# Altium schematic symbol library F4SDR.SchLib: 74 symbols
Pins are listed as number, name and electrical type; pins without a type are passive.

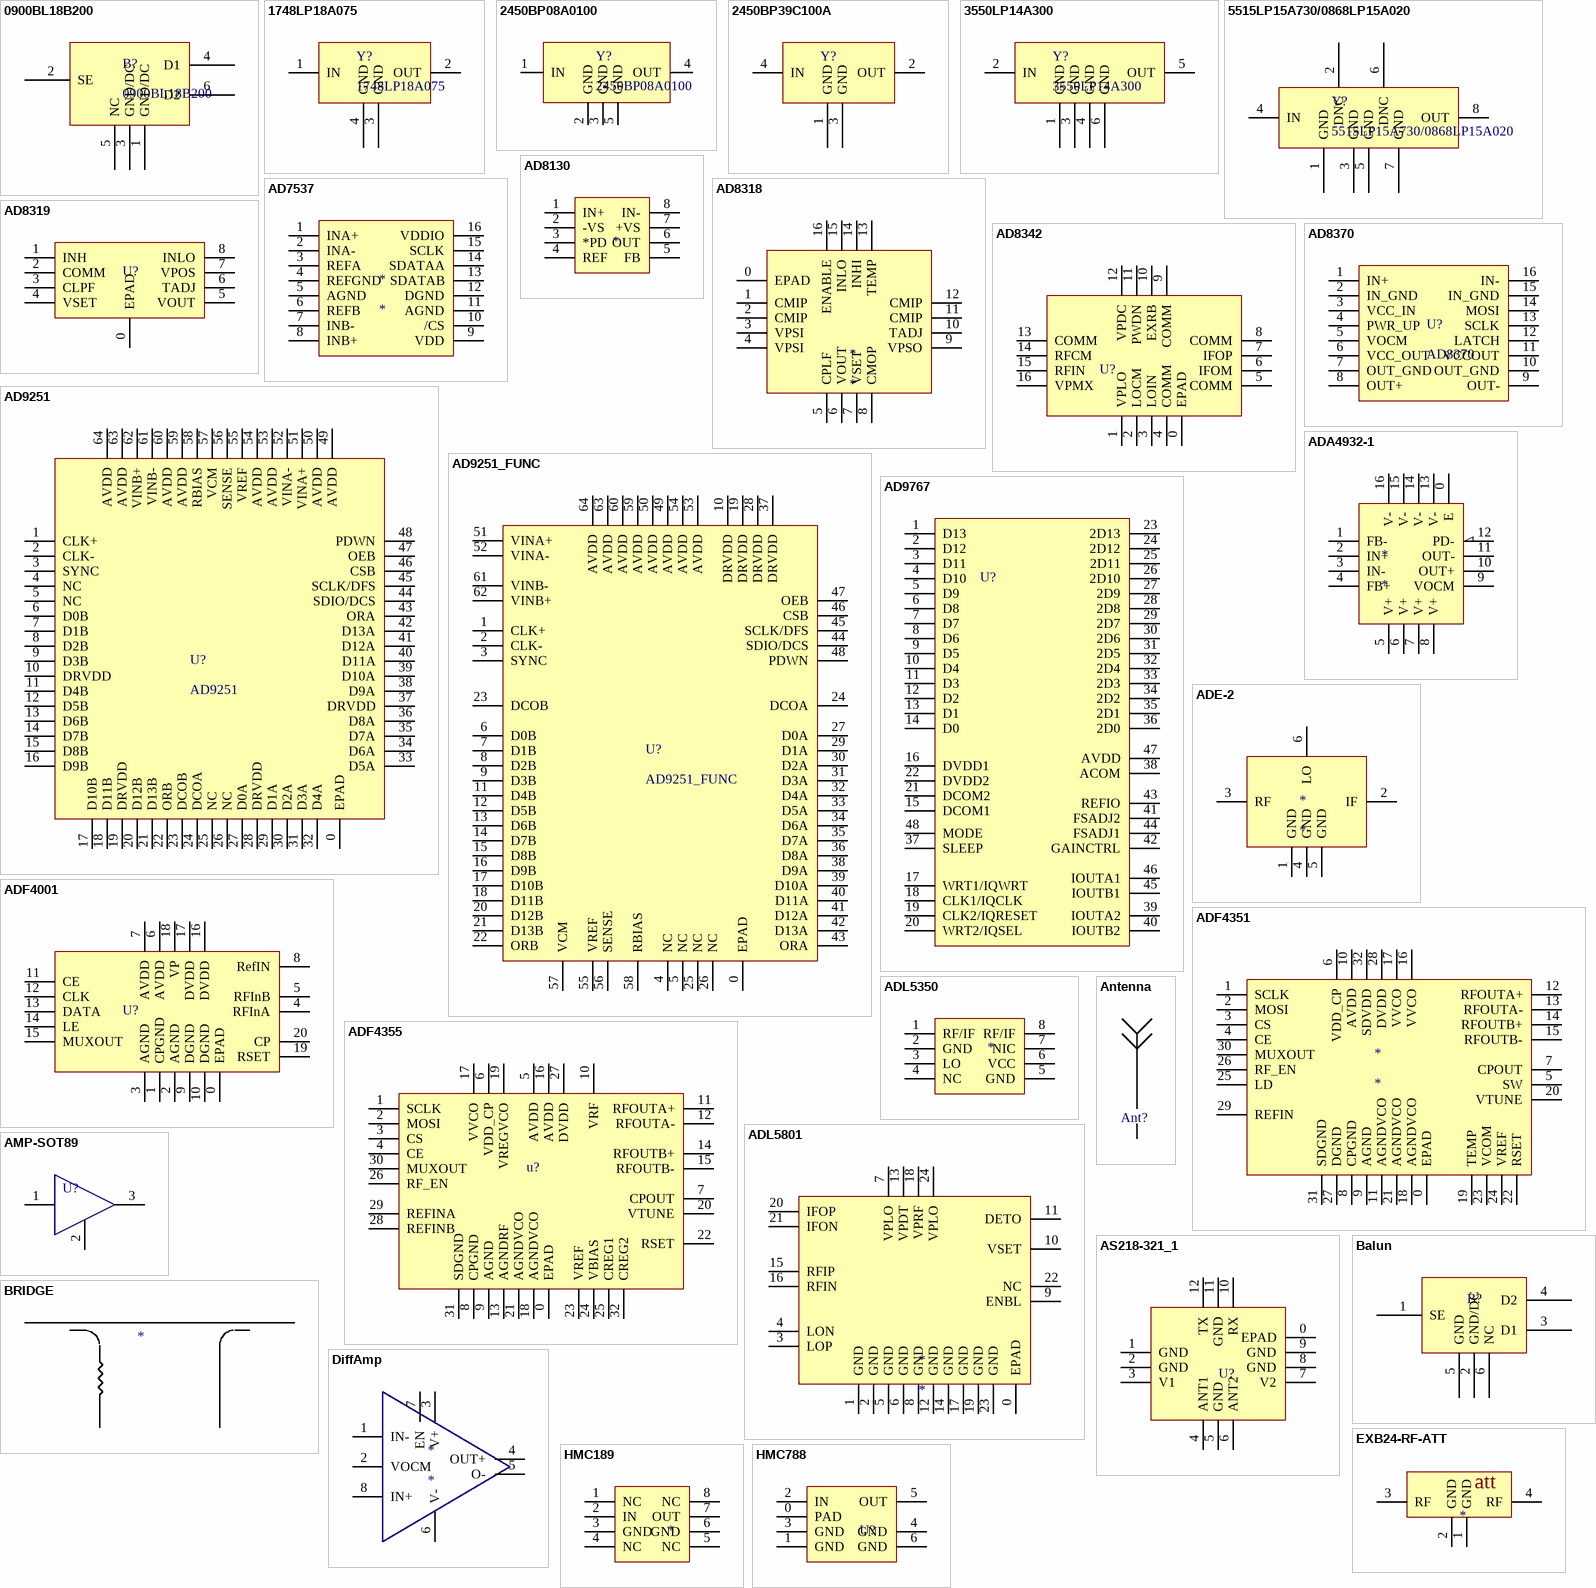
[diagram p0: symbols 0900BL18B200 to HMC788]

## 0900BL18B200
designator B?
footprint 0900BL18B200
pins: 1 GND/DC, 2 SE, 3 GND/DC, 4 D1, 5 NC, 6 D2

## 1748LP18A075
designator Y?
footprint 1748LP18A075
pins: 1 IN, 2 OUT, 3 GND, 4 GND

## 2450BP08A0100
designator Y?
footprint 2450BP08A0100
pins: 1 IN, 2 GND, 3 GND, 4 OUT, 5 GND

## 2450BP39C100A
designator Y?  (value not drawn)
footprint 2450BP39C100A
pins: 1 GND, 2 OUT, 3 GND, 4 IN

## 3550LP14A300
designator Y?
footprint 3550LP14A300
pins: 1 GND, 2 IN, 3 GND, 4 GND, 5 OUT, 6 GND

## 5515LP15A730/0868LP15A020
designator Y?
footprint 5515LP15A730/0868LP15A020
pins: 1 GND, 2 DNC, 3 GND, 4 IN, 5 GND, 6 DNC, 7 GND, 8 OUT

## AD7537
designator *
footprint AD7357
pins: 1 INA+, 2 INA-, 3 REFA, 4 REFGND, 5 AGND, 6 REFB, 7 INB-, 8 INB+, 9 VDD, 10 /CS, 11 AGND, 12 DGND, 13 SDATAB, 14 SDATAA, 15 SCLK, 16 VDDIO

## AD8130
designator *  (value not drawn)
footprint SO8
pins: 1 IN+, 2 -VS, 3 *PD, 4 REF, 5 FB, 6 OUT, 7 +VS, 8 IN-

## AD8318
designator *
footprint AD8318
pins: 0 EPAD, 1 CMIP, 2 CMIP, 3 VPSI, 4 VPSI, 5 CPLF, 6 VOUT, 7 VSET, 8 CMOP, 9 VPSO, 10 TADJ, 11 CMIP, 12 CMIP, 13 TEMP, 14 INHI, 15 INLO, 16 ENABLE

## AD8319
designator U?  (value not drawn)
footprint AD8319
pins: 0 EPAD, 1 INH, 2 COMM, 3 CLPF, 4 VSET, 5 VOUT, 6 TADJ, 7 VPOS, 8 INLO

## AD8342
designator U?  (value not drawn)
footprint ADA4932-1
pins: 0 EPAD, 1 VPLO, 2 LOCM, 3 LOIN, 4 COMM, 5 COMM, 6 IFOM, 7 IFOP, 8 COMM, 9 COMM, 10 EXRB, 11 PWDN, 12 VPDC, 13 COMM, 14 RFCM, 15 RFIN, 16 VPMX

## AD8370
designator U?
footprint TSSOP16_44MM_065P - duplicate
pins: 1 IN+, 2 IN_GND, 3 VCC_IN, 4 PWR_UP, 5 VOCM, 6 VCC_OUT, 7 OUT_GND, 8 OUT+, 9 OUT-, 10 OUT_GND, 11 VCCOUT, 12 LATCH, 13 SCLK, 14 MOSI, 15 IN_GND, 16 IN-

## AD9251
designator U?
footprint AD9251
pins: 0 EPAD, 1 CLK+, 2 CLK-, 3 SYNC, 4 NC, 5 NC, 6 D0B, 7 D1B, 8 D2B, 9 D3B, 10 DRVDD, 11 D4B, 12 D5B, 13 D6B, 14 D7B, 15 D8B, 16 D9B, 17 D10B, 18 D11B, 19 DRVDD, 20 D12B, 21 D13B, 22 ORB, 23 DCOB, 24 DCOA, 25 NC, 26 NC, 27 D0A, 28 DRVDD, 29 D1A, 30 D2A, 31 D3A, 32 D4A, 33 D5A, 34 D6A, 35 D7A, 36 D8A, 37 DRVDD, 38 D9A, 39 D10A, 40 D11A, 41 D12A, 42 D13A, 43 ORA, 44 SDIO/DCS, 45 SCLK/DFS, 46 CSB, 47 OEB, 48 PDWN, 49 AVDD, 50 AVDD, 51 VINA+, 52 VINA-, 53 AVDD, 54 AVDD, 55 VREF, 56 SENSE, 57 VCM, 58 RBIAS, 59 AVDD, 60 AVDD, 61 VINB-, 62 VINB+, 63 AVDD, 64 AVDD

## AD9251_FUNC
designator U?
footprint AD9251
pins: 0 EPAD, 1 CLK+, 2 CLK-, 3 SYNC, 4 NC, 5 NC, 6 D0B, 7 D1B, 8 D2B, 9 D3B, 10 DRVDD, 11 D4B, 12 D5B, 13 D6B, 14 D7B, 15 D8B, 16 D9B, 17 D10B, 18 D11B, 19 DRVDD, 20 D12B, 21 D13B, 22 ORB, 23 DCOB, 24 DCOA, 25 NC, 26 NC, 27 D0A, 28 DRVDD, 29 D1A, 30 D2A, 31 D3A, 32 D4A, 33 D5A, 34 D6A, 35 D7A, 36 D8A, 37 DRVDD, 38 D9A, 39 D10A, 40 D11A, 41 D12A, 42 D13A, 43 ORA, 44 SDIO/DCS, 45 SCLK/DFS, 46 CSB, 47 OEB, 48 PDWN, 49 AVDD, 50 AVDD, 51 VINA+, 52 VINA-, 53 AVDD, 54 AVDD, 55 VREF, 56 SENSE, 57 VCM, 58 RBIAS, 59 AVDD, 60 AVDD, 61 VINB-, 62 VINB+, 63 AVDD, 64 AVDD

## AD9767
designator U?  (value not drawn)
footprint AD9767
pins: 1 D13, 2 D12, 3 D11, 4 D10, 5 D9, 6 D8, 7 D7, 8 D6, 9 D5, 10 D4, 11 D3, 12 D2, 13 D1, 14 D0, 15 DCOM1, 16 DVDD1, 17 WRT1/IQWRT, 18 CLK1/IQCLK, 19 CLK2/IQRESET, 20 WRT2/IQSEL, 21 DCOM2, 22 DVDD2, 23 2D13, 24 2D12, 25 2D11, 26 2D10, 27 2D9, 28 2D8, 29 2D7, 30 2D6, 31 2D5, 32 2D4, 33 2D3, 34 2D2, 35 2D1, 36 2D0, 37 SLEEP, 38 ACOM, 39 IOUTA2, 40 IOUTB2, 41 FSADJ2, 42 GAINCTRL, 43 REFIO, 44 FSADJ1, 45 IOUTB1, 46 IOUTA1, 47 AVDD, 48 MODE

## ADA4932-1
designator *
footprint ADA4932-1
pins: 0 E, 1 FB-, 2 IN+, 3 IN-, 4 FB+, 5 V+, 6 V+, 7 V+, 8 V+, 9 VOCM, 10 OUT+, 11 OUT-, 12 PD-, 13 V-, 14 V-, 15 V-, 16 V-

## ADE-2
designator *
footprint ADE-2
pins: 1 GND, 2 IF, 3 RF, 4 GND, 5 GND, 6 LO

## ADF4001
designator U?  (value not drawn)
footprint ADF4001
pins: 0 EPAD, 1 CPGND, 2 AGND, 3 AGND, 4 RFInA, 5 RFInB, 6 AVDD, 7 AVDD, 8 RefIN, 9 DGND, 10 DGND, 11 CE, 12 CLK, 13 DATA, 14 LE, 15 MUXOUT, 16 DVDD, 17 DVDD, 18 VP, 19 RSET, 20 CP

## ADF4351
designator *
footprint ADF4351
pins: 0 EPAD, 1 SCLK, 2 MOSI, 3 CS, 4 CE, 5 SW, 6 VDD_CP, 7 CPOUT, 8 CPGND, 9 AGND, 10 AVDD, 11 AGNDVCO, 12 RFOUTA+, 13 RFOUTA-, 14 RFOUTB+, 15 RFOUTB-, 16 VVCO, 17 VVCO, 18 AGNDVCO, 19 TEMP, 20 VTUNE, 21 AGNDVCO, 22 RSET, 23 VCOM, 24 VREF, 25 LD, 26 RF_EN, 27 DGND, 28 DVDD, 29 REFIN, 30 MUXOUT, 31 SDGND, 32 SDVDD

## ADF4355
designator u?  (value not drawn)
footprint ADF4351
pins: 0 EPAD, 1 SCLK, 2 MOSI, 3 CS, 4 CE, 5 AVDD, 6 VDD_CP, 7 CPOUT, 8 CPGND, 9 AGND, 10 VRF, 11 RFOUTA+, 12 RFOUTA-, 13 AGNDRF, 14 RFOUTB+, 15 RFOUTB-, 16 AVDD, 17 VVCO, 18 AGNDVCO, 19 VREGVCO, 20 VTUNE, 21 AGNDVCO, 22 RSET, 23 VREF, 24 VBIAS, 25 CREG1, 26 RF_EN, 27 DVDD, 28 REFINB, 29 REFINA, 30 MUXOUT, 31 SDGND, 32 CREG2

## ADL5350
designator *  (value not drawn)
pins: 1 RF/IF, 2 GND, 3 LO, 4 NC, 5 GND, 6 VCC, 7 NIC, 8 RF/IF

## ADL5801
designator *
footprint ADL5801
pins: 0 EPAD, 1 GND, 2 GND, 3 LOP, 4 LON, 5 GND, 6 GND, 7 VPLO, 8 GND, 9 ENBL, 10 VSET, 11 DETO, 12 GND, 13 VPDT, 14 GND, 15 RFIP, 16 RFIN, 17 GND, 18 VPRF, 19 GND, 20 IFOP, 21 IFON, 22 NC, 23 GND, 24 VPLO

## AMP-SOT89
designator U?  (value not drawn)
footprint SOT-89
pins: 1, 2, 3

## Antenna
designator Ant?  (value not drawn)
footprint SMA-2
footprint IPEX-2 (Footprint not found)
pins: 1, GND G

## AS218-321_1
designator U?
footprint SKY13319/AS218-321
pins: 0 EPAD, 1 GND, 2 GND, 3 V1, 4 ANT1, 5 GND, 6 ANT2, 7 V2, 8 GND, 9 GND, 10 RX, 11 GND, 12 TX

## Balun
designator B?
footprint HHM1711D1/HHM1732B1
pins: 1 SE, 2 GND/DC, 3 D1, 4 D2, 5 GND, 6 NC

## BRIDGE
designator *  (value not drawn)
footprint BRIDGE
pins: COUPLE, GND, OUT, SOURCE

## DiffAmp
designator *
footprint MSOP8/VSSOP8
footprint SOIC8_39MM
pins: 1 IN-, 2 VOCM, 3 V+, 4 OUT+, 5 O-, 6 V-, 7 EN, 8 IN+

## EXB24-RF-ATT
designator *  (value not drawn)
footprint EXB24AT-RF-ATT
pins: 1 GND, 2 GND, 3 RF, 4 RF
text: att

## HMC189
designator *  (value not drawn)
footprint MSOP8/VSSOP8
pins: 1 NC, 2 IN, 3 GND, 4 NC, 5 NC, 6 GND, 7 OUT, 8 NC

## HMC788
designator U?  (value not drawn)
footprint HMC788
pins: 0 PAD, 1 GND, 2 IN, 3 GND, 4 GND, 5 OUT, 6 GND

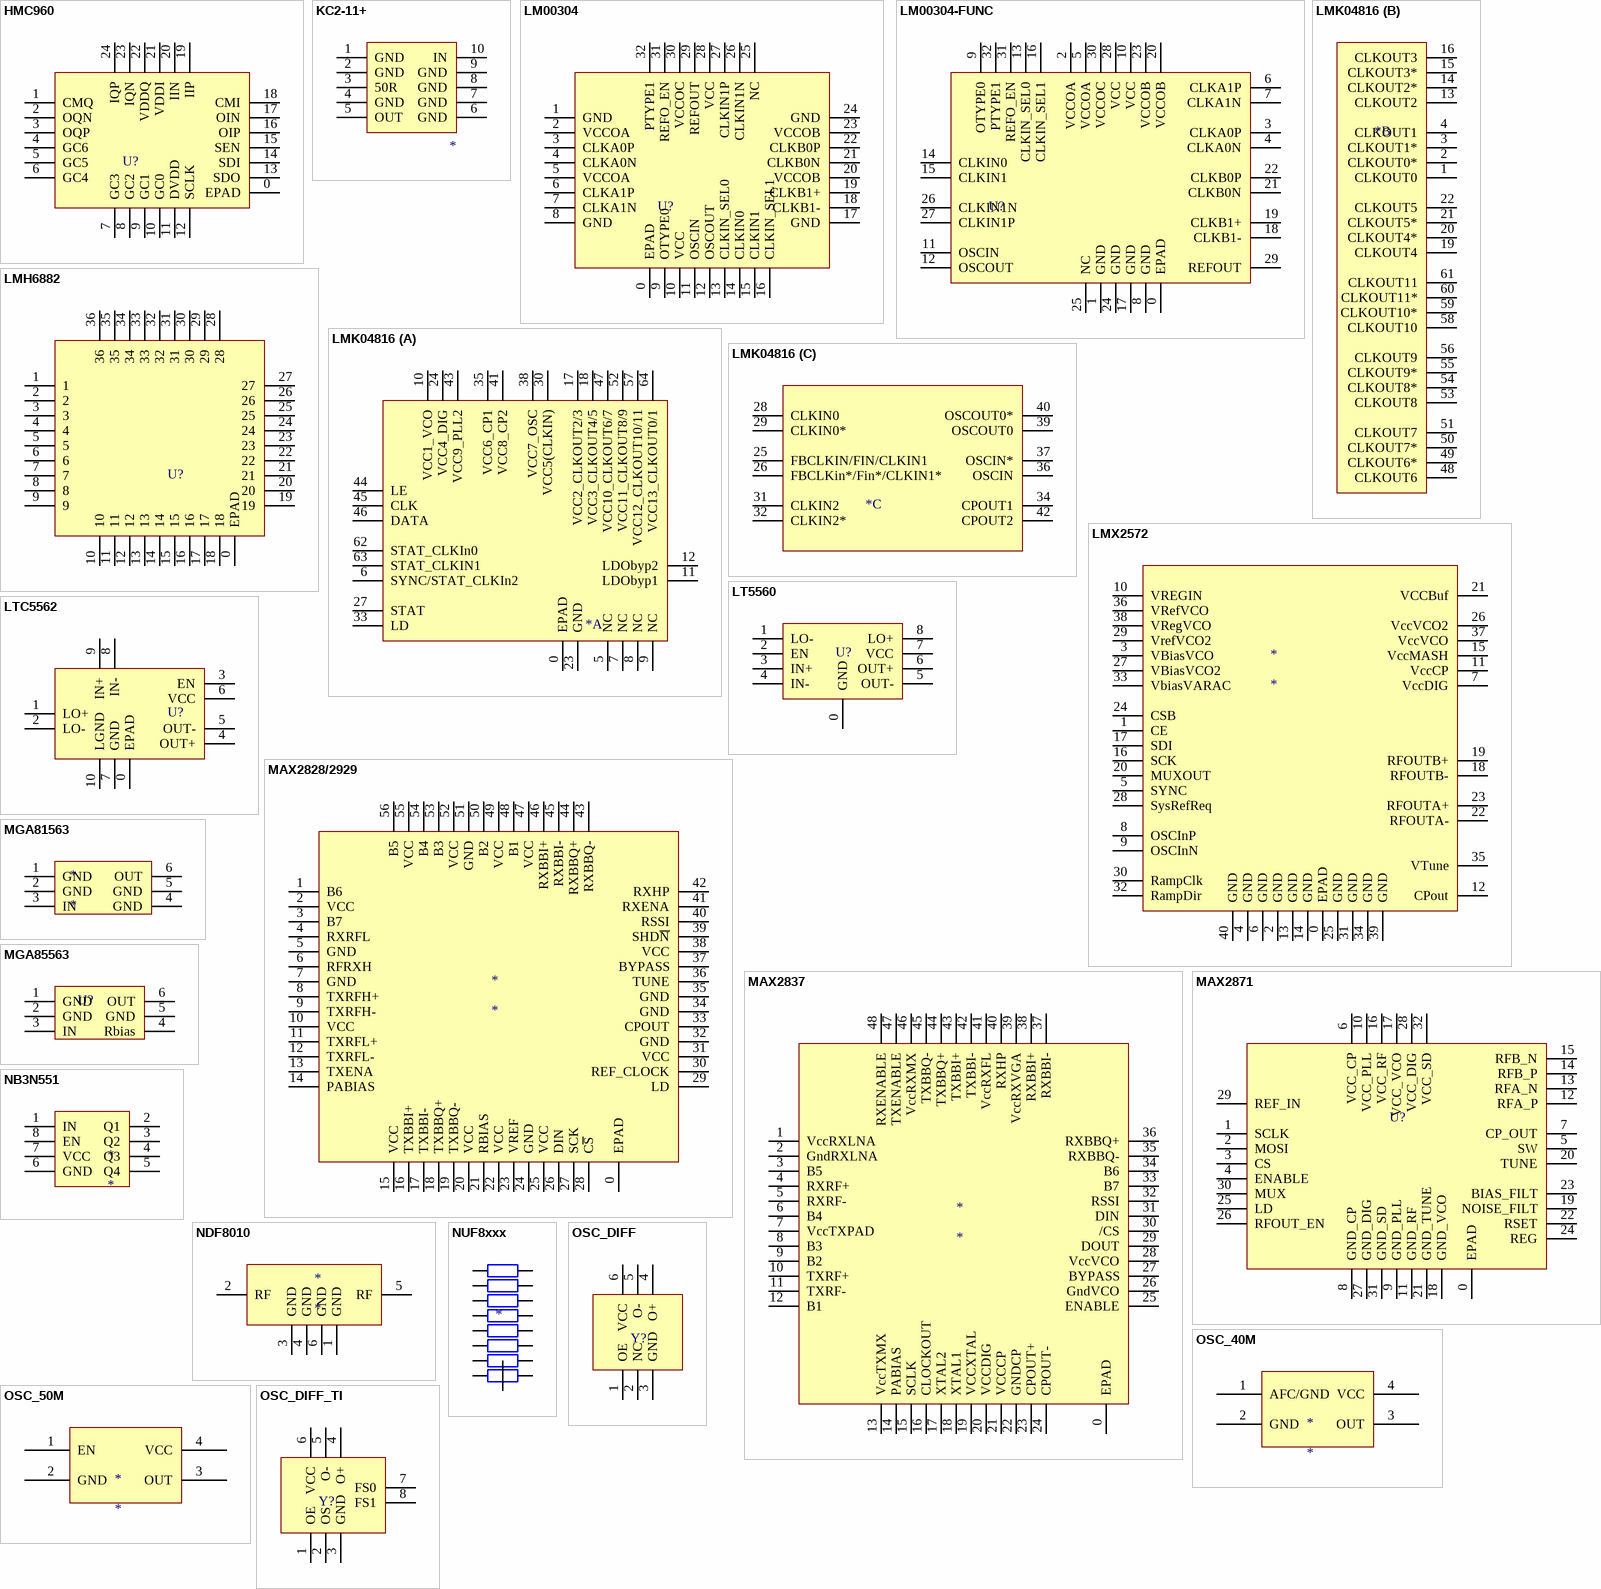
[diagram p1: symbols HMC960 to OSC_DIFF_TI]

## HMC960
designator U?  (value not drawn)
footprint HMC960
pins: 0 EPAD, 1 CMQ, 2 OQN, 3 OQP, 4 GC6, 5 GC5, 6 GC4, 7 GC3, 8 GC2, 9 GC1, 10 GC0, 11 DVDD, 12 SCLK, 13 SDO, 14 SDI, 15 SEN, 16 OIP, 17 OIN, 18 CMI, 19 IIP, 20 IIN, 21 VDDI, 22 VDDQ, 23 IQN, 24 IQP

## KC2-11+
designator *  (value not drawn)
footprint DZ885
pins: 1 GND, 2 GND, 3 50R, 4 GND, 5 OUT, 6 GND, 7 GND, 8 GND, 9 GND, 10 IN

## LM00304
designator U?  (value not drawn)
footprint LMK00304
pins: 0 EPAD, 1 GND, 2 VCCOA, 3 CLKA0P, 4 CLKA0N, 5 VCCOA, 6 CLKA1P, 7 CLKA1N, 8 GND, 9 OTYPE0, 10 VCC, 11 OSCIN, 12 OSCOUT, 13 CLKIN_SEL0, 14 CLKIN0, 15 CLKIN1, 16 CLKIN_SEL1, 17 GND, 18 CLKB1-, 19 CLKB1+, 20 VCCOB, 21 CLKB0N, 22 CLKB0P, 23 VCCOB, 24 GND, 25 NC, 26 CLKIN1N, 27 CLKIN1P, 28 VCC, 29 REFOUT, 30 VCCOC, 31 REFO_EN, 32 PTYPE1

## LM00304-FUNC
designator U?  (value not drawn)
footprint LMK00304
pins: 0 EPAD, 1 GND, 2 VCCOA, 3 CLKA0P, 4 CLKA0N, 5 VCCOA, 6 CLKA1P, 7 CLKA1N, 8 GND, 9 OTYPE0, 10 VCC, 11 OSCIN, 12 OSCOUT, 13 CLKIN_SEL0, 14 CLKIN0, 15 CLKIN1, 16 CLKIN_SEL1, 17 GND, 18 CLKB1-, 19 CLKB1+, 20 VCCOB, 21 CLKB0N, 22 CLKB0P, 23 VCCOB, 24 GND, 25 NC, 26 CLKIN1N, 27 CLKIN1P, 28 VCC, 29 REFOUT, 30 VCCOC, 31 REFO_EN, 32 PTYPE1

## LMH6882
designator U?  (value not drawn)
footprint LMH6882
pins: 0 EPAD, 1, 2, 3, 4, 5, 6, 7, 8, 9, 10, 11, 12, 13, 14, 15, 16, 17, 18, 19, 20, 21, 22, 23, 24, 25, 26, 27, 28, 29, 30, 31, 32, 33, 34, 35, 36

## LMK04816
designator *  (value not drawn)
footprint LMK04816
part A pins: 0 EPAD, 5 NC, 6 SYNC/STAT_CLKIn2, 7 NC, 8 NC, 9 NC, 10 VCC1_VCO, 11 LDObyp1, 12 LDObyp2, 17 VCC2_CLKOUT2/3, 18 VCC3_CLKOUT4/5, 23 GND, 24 VCC4_DIG, 27 STAT, 30 VCC5(CLKIN), 33 LD, 35 VCC6_CP1, 38 VCC7_OSC, 41 VCC8_CP2, 43 VCC9_PLL2, 44 LE, 45 CLK, 46 DATA, 47 VCC10_CLKOUT6/7, 52 VCC11_CLKOUT8/9, 57 VCC12_CLKOUT10/11, 62 STAT_CLKIn0, 63 STAT_CLKIN1, 64 VCC13_CLKOUT0/1
part B pins: 1 CLKOUT0, 2 CLKOUT0*, 3 CLKOUT1*, 4 CLKOUT1, 13 CLKOUT2, 14 CLKOUT2*, 15 CLKOUT3*, 16 CLKOUT3, 19 CLKOUT4, 20 CLKOUT4*, 21 CLKOUT5*, 22 CLKOUT5, 48 CLKOUT6, 49 CLKOUT6*, 50 CLKOUT7*, 51 CLKOUT7, 53 CLKOUT8, 54 CLKOUT8*, 55 CLKOUT9*, 56 CLKOUT9, 58 CLKOUT10, 59 CLKOUT10*, 60 CLKOUT11*, 61 CLKOUT11
part C pins: 25 FBCLKIN/FIN/CLKIN1, 26 FBCLKin*/Fin*/CLKIN1*, 28 CLKIN0, 29 CLKIN0*, 31 CLKIN2, 32 CLKIN2*, 34 CPOUT1, 36 OSCIN, 37 OSCIN*, 39 OSCOUT0, 40 OSCOUT0*, 42 CPOUT2

## LMX2572
designator *
footprint LMX2572
pins: 0 EPAD, 1 CE, 2 GND, 3 VBiasVCO, 4 GND, 5 SYNC, 6 GND, 7 VccDIG, 8 OSCInP, 9 OSCInN, 10 VREGIN, 11 VccCP, 12 CPout, 13 GND, 14 GND, 15 VccMASH, 16 SCK, 17 SDI, 18 RFOUTB-, 19 RFOUTB+, 20 MUXOUT, 21 VCCBuf, 22 RFOUTA-, 23 RFOUTA+, 24 CSB, 25 GND, 26 VccVCO2, 27 VBiasVCO2, 28 SysRefReq, 29 VrefVCO2, 30 RampClk, 31 GND, 32 RampDir, 33 VbiasVARAC, 34 GND, 35 VTune, 36 VRefVCO, 37 VccVCO, 38 VRegVCO, 39 GND, 40 GND

## LT5560
designator U?  (value not drawn)
footprint LT5560
pins: 0 GND, 1 LO-, 2 EN, 3 IN+, 4 IN-, 5 OUT-, 6 OUT+, 7 VCC, 8 LO+

## LTC5562
designator U?  (value not drawn)
footprint LTC5562
pins: 0 EPAD, 1 LO+, 2 LO-, 3 EN, 4 OUT+, 5 OUT-, 6 VCC, 7 GND, 8 IN-, 9 IN+, 10 LGND

## MAX2828/2929
designator *
pins: 0 EPAD, 1 B6, 2 VCC, 3 B7, 4 RXRFL, 5 GND, 6 RFRXH, 7 GND, 8 TXRFH+, 9 TXRFH-, 10 VCC, 11 TXRFL+, 12 TXRFL-, 13 TXENA, 14 PABIAS, 15 VCC, 16 TXBBI+, 17 TXBBI-, 18 TXBBQ+, 19 TXBBQ-, 20 VCC, 21 RBIAS, 22 VCC, 23 VREF, 24 GND, 25 VCC, 26 DIN, 27 SCK, 28 C~{S}, 29 LD, 30 REF_CLOCK, 31 VCC, 32 GND, 33 CPOUT, 34 GND, 35 GND, 36 TUNE, 37 BYPASS, 38 VCC, 39 SHD~{N}, 40 RSSI, 41 RXENA, 42 RXHP, 43 RXBBQ-, 44 RXBBQ+, 45 RXBBI-, 46 RXBBI+, 47 VCC, 48 B1, 49 VCC, 50 B2, 51 GND, 52 VCC, 53 B3, 54 B4, 55 VCC, 56 B5

## MAX2837
designator *
footprint MAX2837
pins: 0 EPAD, 1 VccRXLNA, 2 GndRXLNA, 3 B5, 4 RXRF+, 5 RXRF-, 6 B4, 7 VccTXPAD, 8 B3, 9 B2, 10 TXRF+, 11 TXRF-, 12 B1, 13 VccTXMX, 14 PABIAS, 15 SCLK, 16 CLOCKOUT, 17 XTAL2, 18 XTAL1, 19 VCCXTAL, 20 VCCDIG, 21 VCCCP, 22 GNDCP, 23 CPOUT+, 24 CPOUT-, 25 ENABLE, 26 GndVCO, 27 BYPASS, 28 VccVCO, 29 DOUT, 30 /CS, 31 DIN, 32 RSSI, 33 B7, 34 B6, 35 RXBBQ-, 36 RXBBQ+, 37 RXBBI-, 38 RXBBI+, 39 VccRXVGA, 40 RXHP, 41 VccRXFL, 42 TXBBI-, 43 TXBBI+, 44 TXBBQ+, 45 TXBBQ-, 46 VccRXMX, 47 TXENABLE, 48 RXENABLE

## MAX2871
designator U?  (value not drawn)
footprint MAX2871
pins: 0 EPAD, 1 SCLK, 2 MOSI, 3 CS, 4 ENABLE, 5 SW, 6 VCC_CP, 7 CP_OUT, 8 GND_CP, 9 GND_PLL, 10 VCC_PLL, 11 GND_RF, 12 RFA_P, 13 RFA_N, 14 RFB_P, 15 RFB_N, 16 VCC_RF, 17 VCC_VCO, 18 GND_VCO, 19 NOISE_FILT, 20 TUNE, 21 GND_TUNE, 22 RSET, 23 BIAS_FILT, 24 REG, 25 LD, 26 RFOUT_EN, 27 GND_DIG, 28 VCC_DIG, 29 REF_IN, 30 MUX, 31 GND_SD, 32 VCC_SD

## MGA81563
designator *
footprint SC-70-6
pins: 1 GND, 2 GND, 3 IN, 4 GND, 5 GND, 6 OUT

## MGA85563
designator U?  (value not drawn)
footprint SC-70-6
pins: 1 GND, 2 GND, 3 IN, 4 Rbias, 5 GND, 6 OUT

## NB3N551
designator *
footprint SO8
pins: 1 IN, 2 Q1, 3 Q2, 4 Q3, 5 Q4, 6 GND, 7 VCC, 8 EN

## NDF8010
designator *
footprint NDF8010
pins: 1 GND, 2 RF, 3 GND, 4 GND, 5 RF, 6 GND

## NUF8xxx
designator *  (value not drawn)
footprint NUF8xxx
pins: 0, 1, 2, 3, 4, 5, 6, 7, 8, 9, 10, 11, 12, 13, 14, 15, 16

## OSC_40M
designator *
footprint TXC_7Q
pins: 1 AFC/GND, 2 GND, 3 OUT, 4 VCC

## OSC_50M
designator *
footprint TXC_7Q
pins: 1 EN, 2 GND, 3 OUT, 4 VCC

## OSC_DIFF
designator Y?
footprint OSC3225_DIFF
footprint OSC7050-DIFF
pins: 1 OE, 2 NC, 3 GND, 4 O+, 5 O-, 6 VCC

## OSC_DIFF_TI
designator Y?
footprint OSC7050-LMK61PD0A2
pins: 1 OE, 2 OS, 3 GND, 4 O+, 5 O-, 6 VCC, 7 FS0, 8 FS1

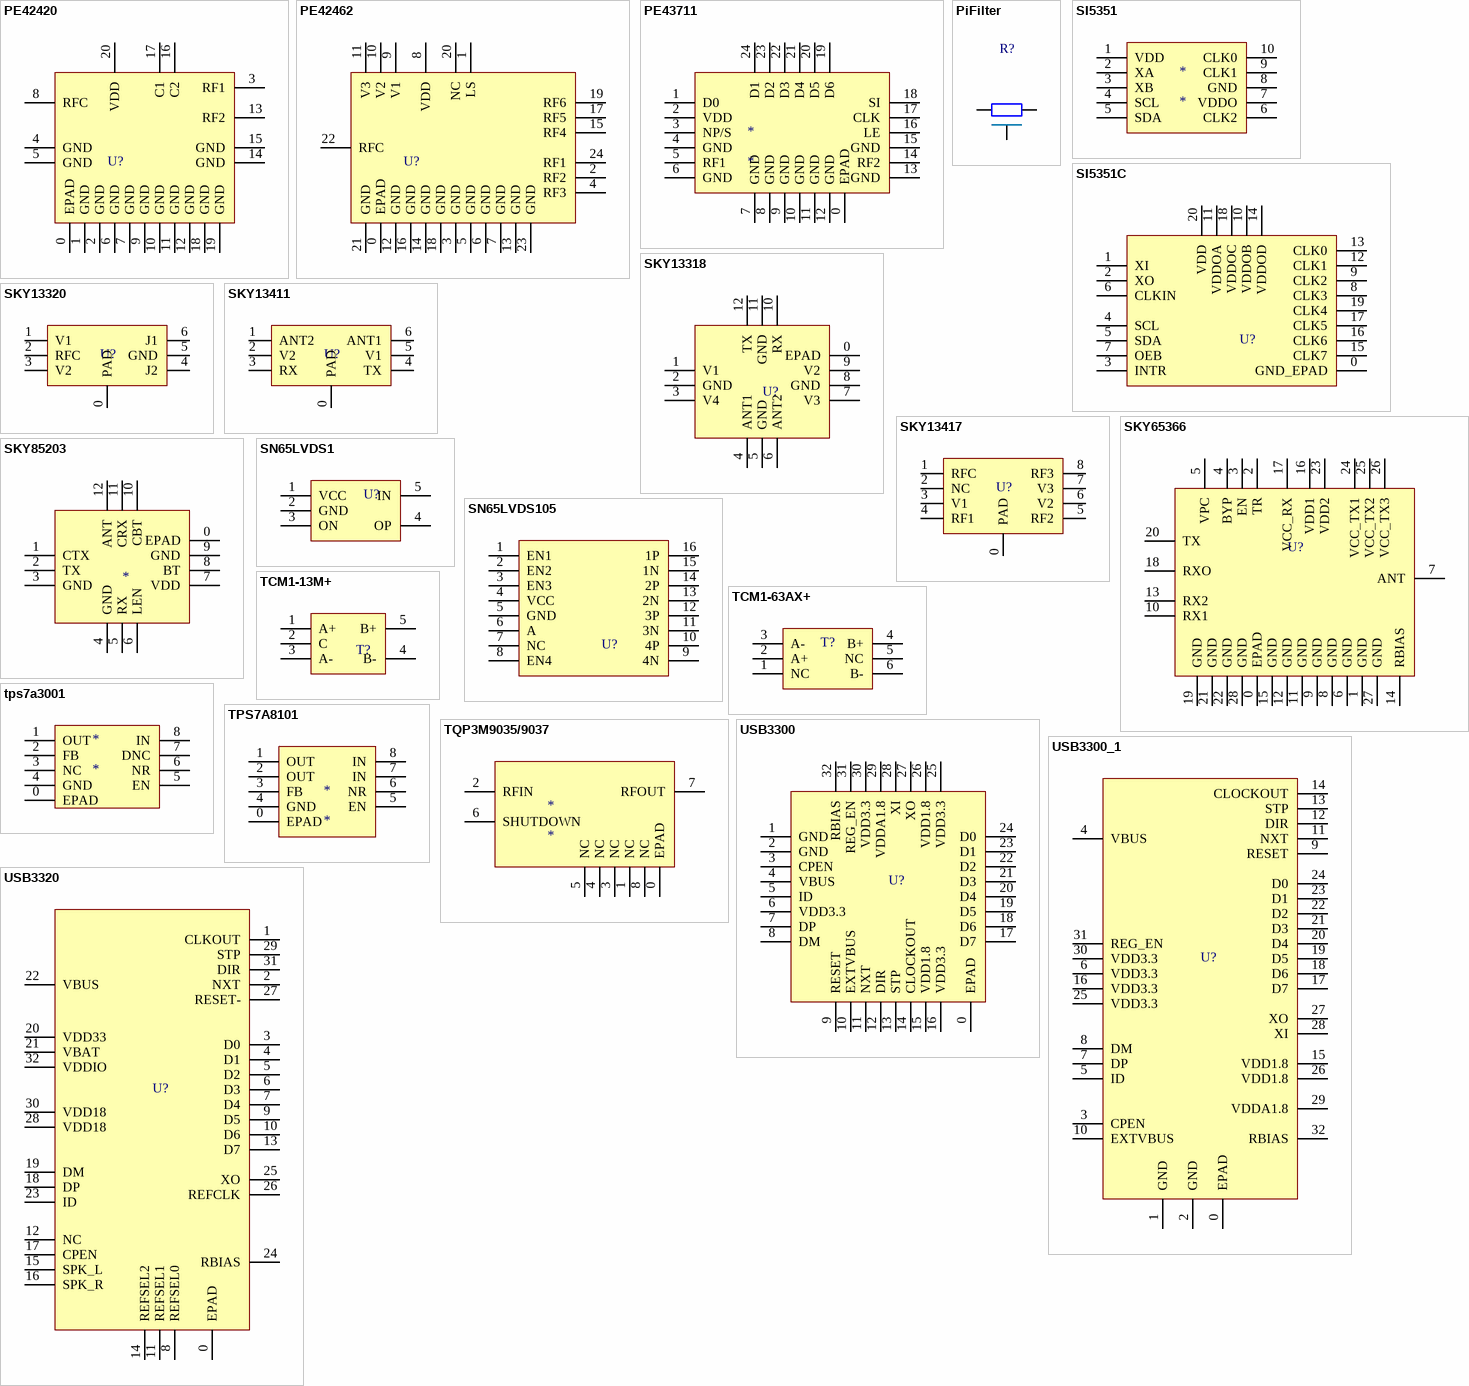
[diagram p2: symbols PE42420 to USB3320]

## PE42420
designator U?  (value not drawn)
footprint PE42420
pins: 0 EPAD, 1 GND, 2 GND, 3 RF1, 4 GND, 5 GND, 6 GND, 7 GND, 8 RFC, 9 GND, 10 GND, 11 GND, 12 GND, 13 RF2, 14 GND, 15 GND, 16 C2, 17 C1, 18 GND, 19 GND, 20 VDD

## PE42462
designator U?  (value not drawn)
footprint PE42462
pins: 0 EPAD, 1 LS, 2 RF2, 3 GND, 4 RF3, 5 GND, 6 GND, 7 GND, 8 VDD, 9 V1, 10 V2, 11 V3, 12 GND, 13 GND, 14 GND, 15 RF4, 16 GND, 17 RF5, 18 GND, 19 RF6, 20 NC, 21 GND, 22 RFC, 23 GND, 24 RF1

## PE43711
designator *
footprint PE43711
pins: 0 EPAD, 1 D0, 2 VDD, 3 NP/S, 4 GND, 5 RF1, 6 GND, 7 GND, 8 GND, 9 GND, 10 GND, 11 GND, 12 GND, 13 GND, 14 RF2, 15 GND, 16 LE, 17 CLK, 18 SI, 19 D6, 20 D5, 21 D4, 22 D3, 23 D2, 24 D1

## PiFilter
designator R?  (value not drawn)
footprint PiFIiter
pins: 1, 2, 3

## SI5351
designator *
footprint MSOP10/VSSOP10
pins: 1 VDD, 2 XA, 3 XB, 4 SCL, 5 SDA, 6 CLK2, 7 VDDO, 8 GND, 9 CLK1, 10 CLK0

## SI5351C
designator U?  (value not drawn)
footprint si5351c
pins: 0 GND_EPAD, 1 XI, 2 XO, 3 INTR, 4 SCL, 5 SDA, 6 CLKIN, 7 OEB, 8 CLK3, 9 CLK2, 10 VDDOB, 11 VDDOA, 12 CLK1, 13 CLK0, 14 VDDOD, 15 CLK7, 16 CLK6, 17 CLK5, 18 VDDOC, 19 CLK4, 20 VDD

## SKY13318
designator U?
footprint SKY13319/AS218-321
pins: 0 EPAD, 1 V1, 2 GND, 3 V4, 4 ANT1, 5 GND, 6 ANT2, 7 V3, 8 GND, 9 V2, 10 RX, 11 GND, 12 TX

## SKY13320
designator U?  (value not drawn)
footprint SKY65404-31
pins: 0 PAD, 1 V1, 2 RFC, 3 V2, 4 J2, 5 GND, 6 J1

## SKY13411
designator U?  (value not drawn)
footprint SKY65404-31
pins: 0 PAD, 1 ANT2, 2 V2, 3 RX, 4 TX, 5 V1, 6 ANT1

## SKY13417
designator U?  (value not drawn)
footprint SKY13317
pins: 0 PAD, 1 RFC, 2 NC, 3 V1, 4 RF1, 5 RF2, 6 V2, 7 V3, 8 RF3

## SKY65366
designator U?  (value not drawn)
footprint SKY65366
pins: 0 EPAD, 1 GND, 2 TR, 3 EN, 4 BYP, 5 VPC, 6 GND, 7 ANT, 8 GND, 9 GND, 10 RX1, 11 GND, 12 GND, 13 RX2, 14 RBIAS, 15 GND, 16 VDD1, 17 VCC_RX, 18 RXO, 19 GND, 20 TX, 21 GND, 22 GND, 23 VDD2, 24 VCC_TX1, 25 VCC_TX2, 26 VCC_TX3, 27 GND, 28 GND

## SKY85203
designator *  (value not drawn)
footprint SKY85203
pins: 0 EPAD, 1 CTX, 2 TX, 3 GND, 4 GND, 5 RX, 6 LEN, 7 VDD, 8 BT, 9 GND, 10 CBT, 11 CRX, 12 ANT

## SN65LVDS1
designator U?  (value not drawn)
footprint SOT23-5
pins: 1 VCC, 2 GND, 3 ON, 4 OP, 5 IN

## SN65LVDS105
designator U?  (value not drawn)
footprint TSSOP16_44MM_065P - duplicate
pins: 1 EN1, 2 EN2, 3 EN3, 4 VCC, 5 GND, 6 A, 7 NC, 8 EN4, 9 4N, 10 4P, 11 3N, 12 3P, 13 2N, 14 2P, 15 1N, 16 1P

## TCM1-13M+
designator T?
footprint TCM-13M+
pins: 1 A+, 2 C, 3 A-, 4 B-, 5 B+

## TCM1-63AX+
designator T?
footprint TCM1-63AX+
pins: 1 NC, 2 A+, 3 A-, 4 B+, 5 NC, 6 B-

## tps7a3001
designator *
footprint MSOP8/VSSOP8+PAD
pins: 0 EPAD, 1 OUT, 2 FB, 3 NC, 4 GND, 5 EN, 6 NR, 7 DNC, 8 IN

## TPS7A8101
designator *
footprint TPS7A8101
pins: 0 EPAD, 1 OUT, 2 OUT, 3 FB, 4 GND, 5 EN, 6 NR, 7 IN, 8 IN

## TQP3M9035/9037
designator *
footprint TQP3M903x_QFN2x2
pins: 0 EPAD, 1 NC, 2 RFIN, 3 NC, 4 NC, 5 NC, 6 SHUTDOWN, 7 RFOUT, 8 NC

## USB3300
designator U?  (value not drawn)
footprint USB3300
pins: 0 EPAD, 1 GND, 2 GND, 3 CPEN, 4 VBUS, 5 ID, 6 VDD3.3, 7 DP, 8 DM, 9 RESET, 10 EXTVBUS, 11 NXT, 12 DIR, 13 STP, 14 CLOCKOUT, 15 VDD1.8, 16 VDD3.3, 17 D7, 18 D6, 19 D5, 20 D4, 21 D3, 22 D2, 23 D1, 24 D0, 25 VDD3.3, 26 VDD1.8, 27 XO, 28 XI, 29 VDDA1.8, 30 VDD3.3, 31 REG_EN, 32 RBIAS

## USB3300_1
designator U?  (value not drawn)
footprint USB3300
pins: 0 EPAD, 1 GND, 2 GND, 3 CPEN, 4 VBUS, 5 ID, 6 VDD3.3, 7 DP, 8 DM, 9 RESET, 10 EXTVBUS, 11 NXT, 12 DIR, 13 STP, 14 CLOCKOUT, 15 VDD1.8, 16 VDD3.3, 17 D7, 18 D6, 19 D5, 20 D4, 21 D3, 22 D2, 23 D1, 24 D0, 25 VDD3.3, 26 VDD1.8, 27 XO, 28 XI, 29 VDDA1.8, 30 VDD3.3, 31 REG_EN, 32 RBIAS

## USB3320
designator U?  (value not drawn)
footprint USB3300
pins: 0 EPAD, 1 CLKOUT, 2 NXT, 3 D0, 4 D1, 5 D2, 6 D3, 7 D4, 8 REFSEL0, 9 D5, 10 D6, 11 REFSEL1, 12 NC, 13 D7, 14 REFSEL2, 15 SPK_L, 16 SPK_R, 17 CPEN, 18 DP, 19 DM, 20 VDD33, 21 VBAT, 22 VBUS, 23 ID, 24 RBIAS, 25 XO, 26 REFCLK, 27 RESET-, 28 VDD18, 29 STP, 30 VDD18, 31 DIR, 32 VDDIO